# Altium footprint library BiciMaps_3.PcbLib: 28 footprints (part 1 of 2)
Each footprint in its own frame and in the unit in brackets; x right, y up, seen from the top. Pads: shape width x height; smd on the part's side, far side on the other; paste and mask are expansions set on the pad; w line width, h text height; cw(c..) or ccw(c..) is an arc to the next point about the centre after c.
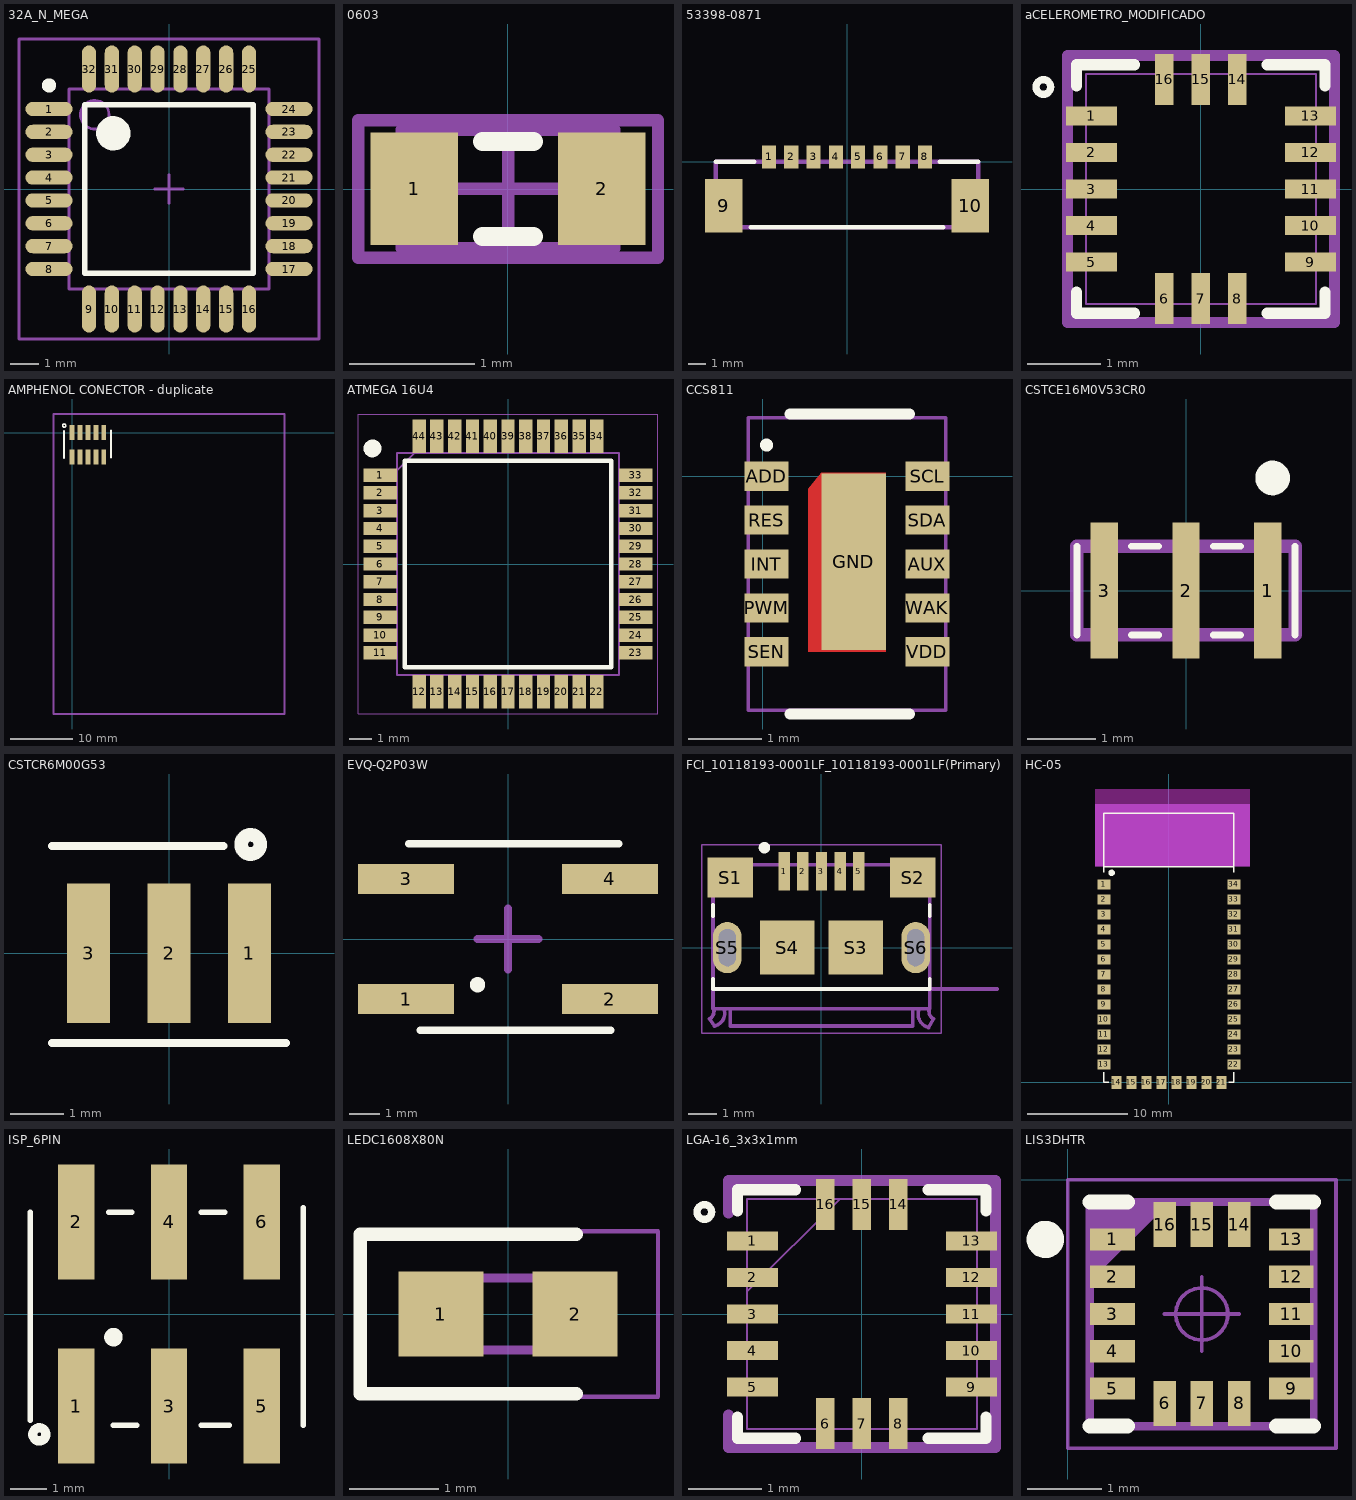
[diagram p0: the footprints below, top view; thin cyan lines are the x and y axes]

## 32A_N_MEGA [mm] "Thin QFP, 32-Leads, Body 7x7mm, Pitch 0.8mm, IPC Medium Density"
height 1.2
pads (32):
  oval 1.65x0.5 smd: 1(-4.2,2.8) 2(-4.2,2) 3(-4.2,1.2) 4(-4.2,0.4) 5(-4.2,-0.4) 6(-4.2,-1.2) 7(-4.2,-2) 8(-4.2,-2.8) 17(4.2,-2.8) 18(4.2,-2) 19(4.2,-1.2) 20(4.2,-0.4) 21(4.2,0.4) 22(4.2,1.2) 23(4.2,2) 24(4.2,2.8)
  oval 0.5x1.65 smd: 9(-2.8,-4.2) 10(-2,-4.2) 11(-1.2,-4.2) 12(-0.4,-4.2) 13(0.4,-4.2) 14(1.2,-4.2) 15(2,-4.2) 16(2.8,-4.2) 25(2.8,4.2) 26(2,4.2) 27(1.2,4.2) 28(0.4,4.2) 29(-0.4,4.2) 30(-1.2,4.2) 31(-2,4.2) 32(-2.8,4.2)
Top Overlay:
  circle w0.6: c-1.95,1.95 r0.3
  circle w0.25: c-4.2,3.625 r0.125
  lines w0.2: -2.95,-2.95 2.95,-2.95 2.95,2.95 -2.95,2.95 -2.95,-2.95
Mechanical 13:
  circle w0.1: c-2.6,2.6 r0.5
  lines w0.1: -3.5,-3.5 3.5,-3.5 3.5,3.5 -3.5,3.5 -3.5,-3.5
Mechanical 15:
  lines w0.1: -0.5,0 0.5,0 ; 0,-0.5 0,0.5 ; -5.25,-5.25 5.25,-5.25 5.25,5.25 -5.25,5.25 -5.25,-5.25

## 0603 [mm]
pads (2):
  rect 0.7x0.9 smd: 1(-0.75,0) 2(0.75,0)
Top Overlay:
  lines w0.152: -0.203,-0.381 0.203,-0.381 ; -0.203,0.381 0.203,0.381
Mechanical 13:
  lines w0.1: -0.85,-0.475 -0.85,0.475 0.85,0.475 0.85,-0.475 -0.85,-0.475
Mechanical 15:
  lines w0.1: -0.475,0 0.475,0 ; 0,-0.475 0,0.475 ; -1.2,-0.55 -1.2,0.55 1.2,0.55 1.2,-0.55 -1.2,-0.55
3D body: height 0.9, standoff 0, extent -0.85,-0.475 0.85,0.475

## 53398-0871 [mm]
pads (10):
  rect 0.8x1.3 smd: 1(-4.375,0.258) 2(-3.125,0.258) 3(-1.875,0.258) 4(-0.625,0.258) 5(0.625,0.258) 6(1.875,0.258) 7(3.125,0.258) 8(4.375,0.258)
  rect 2.1x3 smd: 9(-6.925,-2.492) 10(6.925,-2.492)
Top Overlay:
  lines w0.254: -7.375,0 -5.2,0 ; -5.4,-3.7 5.4,-3.7 ; 5.2,0 7.375,0
Mechanical 15:
  lines w0.254: -7.375,-3.7 -7.375,0 7.375,0 7.375,-3.7 -7.375,-3.7
3D body "533980871.stp": height 4.97, standoff 0.23, extent -7.702,-4.013 7.448,0.187

## aCELEROMETRO_MODIFICADO [mm]
pads (16):
  rect 0.7x0.254 smd paste+0 mask+0: 1(-1.5,1) 2(-1.5,0.5) 3(-1.5,0) 4(-1.5,-0.5) 5(-1.5,-1) 9(1.5,-1) 10(1.5,-0.5) 11(1.5,0) 12(1.5,0.5) 13(1.5,1)
  rect 0.254x0.7 smd paste+0 mask+0: 6(-0.5,-1.5) 7(0,-1.5) 8(0.5,-1.5) 14(0.5,1.5) 15(0,1.5) 16(-0.5,1.5)
Top Overlay:
  circle w0.1: c-2.159,1.397 r0.1
  lines w0.152: -1.702,-1.408 -1.702,-1.702 -0.908,-1.702 ; -1.702,1.408 -1.702,1.702 -0.908,1.702 ; 0.908,-1.702 1.702,-1.702 1.702,-1.408 ; 0.908,1.702 1.702,1.702 1.702,1.408
Mechanical 13:
  lines w0.025: -1.575,-1.575 1.575,-1.575 1.575,1.575 -1.575,1.575 -1.575,-1.575
Mechanical 15:
  lines w0.152: -1.829,-1.829 -1.829,-1.381 -1.829,1.381 -1.829,1.829 -0.881,1.829 0.881,1.829 1.829,1.829 1.829,1.381 1.829,-1.381 1.829,-1.829 0.881,-1.829 -0.881,-1.829 -1.829,-1.829
3D body: height 1.2, standoff 0, extent 0,0 0,0
3D body: height 1.2, standoff 0, extent 0.635,-0.508 0.635,-0.508

## AMPHENOL CONECTOR - duplicate [mm]
pads (10):
  rect 0.76x2.4 smd: 1(0,0.045) 2(0,-3.855) 3(1.27,0.045) 4(1.27,-3.855) 5(2.54,0.045) 6(2.54,-3.855) 7(3.81,0.045) 8(3.81,-3.855) 9(5.08,0.045) 10(5.08,-3.855)
Top Overlay:
  circle w0.254: c-1.27,1.143 r0.254
  lines w0.305: -1.27,-4.064 -1.27,0.254 ; 6.223,-3.937 6.223,0.381
Mechanical 20:
  lines w0.305: -3,-45 34,-45 34,3 -3,3 -3,-45

## ATMEGA 16U4 [mm]
pads (44):
  rect 1.5x0.6 smd: 1(-5.75,4) 2(-5.75,3.2) 3(-5.75,2.4) 4(-5.75,1.6) 5(-5.75,0.8) 6(-5.75,0) 7(-5.75,-0.8) 8(-5.75,-1.6) 9(-5.75,-2.4) 10(-5.75,-3.2) 11(-5.75,-4) 23(5.75,-4) 24(5.75,-3.2) 25(5.75,-2.4) 26(5.75,-1.6) 27(5.75,-0.8) 28(5.75,0) 29(5.75,0.8) 30(5.75,1.6) 31(5.75,2.4) 32(5.75,3.2) 33(5.75,4)
  rect 0.6x1.5 smd: 12(-4,-5.75) 13(-3.2,-5.75) 14(-2.4,-5.75) 15(-1.6,-5.75) 16(-0.8,-5.75) 17(0,-5.75) 18(0.8,-5.75) 19(1.6,-5.75) 20(2.4,-5.75) 21(3.2,-5.75) 22(4,-5.75) 34(4,5.75) 35(3.2,5.75) 36(2.4,5.75) 37(1.6,5.75) 38(0.8,5.75) 39(0,5.75) 40(-0.8,5.75) 41(-1.6,5.75) 42(-2.4,5.75) 43(-3.2,5.75) 44(-4,5.75)
Top Overlay:
  circle w0.4: c-6.1,5.2 r0.2
  lines w0.2: -4.65,-4.65 -4.65,4.65 4.65,4.65 4.65,-4.65 -4.65,-4.65
Mechanical 13:
  lines w0.1: -5,4.2 -4.2,5 ; -5,-5 -5,5 5,5 5,-5 -5,-5
Mechanical 15:
  lines w0.05: -6.75,-6.75 -6.75,6.75 6.75,6.75 6.75,-6.75 -6.75,-6.75
3D body "ATMEGA16U4-AU.stp": height 1.2, standoff 0, extent -6,-6 6,6

## CCS811 [mm] "CCS811 IAQ measurer"
pads (11):
  rect 0.6x0.4 smd mask+0.05: ADD(0.05,0) AUX(2.25,-1.2) INT(0.05,-1.2) PWM(0.05,-1.8) RES(0.05,-0.6) SCL(2.25,0) SDA(2.25,-0.6) SEN(0.05,-2.4) VDD(2.25,-2.4) WAK(2.25,-1.8)
  rect 0.88x2.413 smd paste+0 mask+0: GND(1.245,-1.168)
Top Layer:
  region: 0.8,0.05
  region: 1.68,0.05 1.68,-2.4 0.62,-2.4 0.62,-0.17 0.8,0.05
Top Overlay:
  circle w0.127: c0.05,0.425 r0.025
  region: 1.2,-1.137
  region: 1.45,-1.15
  lines w0.152: 0.37,-3.25 2,-3.25 ; 0.37,0.85 2,0.85
Mechanical 15:
  lines w0.05: -0.2,-3.2 2.5,-3.2 2.5,0.8 -0.2,0.8 -0.2,-1.2 -0.2,-3.2

## CSTCE16M0V53CR0 [mm]
pads (3):
  rect 0.4x2 smd: 1(1.2,0) 2(0,0) 3(-1.2,0)
Top Overlay:
  circle w0.254: c1.27,1.651 r0.127
  lines w0.1: -1.6,-0.65 -1.6,0.65 ; -0.8,-0.65 -0.4,-0.65 ; -0.8,0.65 -0.4,0.65 ; 0.4,-0.65 0.8,-0.65 ; 0.4,0.65 0.8,0.65 ; 1.6,-0.65 1.6,0.65
Mechanical 15:
  lines w0.2: -1.6,-0.65 -1.6,0.65 1.6,0.65 1.6,-0.65 -1.6,-0.65

## CSTCR6M00G53 [mm]
pads (3):
  rect 0.8x2.6 smd: 1(1.5,0) 2(0,0) 3(-1.5,0)
Top Overlay:
  circle w0.254: c1.524,2.032 r0.18
  lines w0.152: -2.184,-1.676 2.184,-1.676 ; -2.184,2.007 1.016,2.007

## EVQ-Q2P03W [mm]
pads (4):
  rect 3.2x1 smd: 1(-3.4,-2) 2(3.4,-2) 3(-3.4,2) 4(3.4,2)
Top Overlay:
  circle w0.254: c-1.016,-1.524 r0.127
  lines w0.254: -3.302,3.175 3.683,3.175 ; -2.921,-3.048 3.429,-3.048
Mechanical 15:
  lines w0.254: -1.016,0 0,0 ; 0,-1.016 0,0 ; 0,1.016 0,0 ; 1.016,0 0,0

## FCI_10118193-0001LF_10118193-0001LF(Primary) [mm]
pads (11):
  rect 0.4x1.35 smd: 1(-1.3,2.675) 2(-0.65,2.675) 3(0,2.675) 4(0.65,2.675) 5(1.3,2.675)
  rect 1.6x1.4 smd: S1(-3.2,2.45) S2(3.2,2.45)
  rect 1.9x1.9 smd: S3(1.2,0) S4(-1.2,0)
  oval 1x1.8 hole 0.6 slot 1.3 at 90 deg: S5(-3.3,0) S6(3.3,0)
Top Overlay:
  circle w0.2: c-2,3.5 r0.1
  lines w0.127: -3.8,-1.45 3.8,-1.45 ; -3.8,-1.4 -3.8,-1.1 ; -3.8,1.1 -3.8,1.5 ; 3.8,-1.4 3.8,-1.1 ; 3.8,1.1 3.8,1.5
Mechanical 1:
  lines w0: -3.55,-0.35 ccw(c-3.3,-0.35) -3.3,-0.6 ccw(c-3.3,-0.35) -3.05,-0.35 -3.05,0.35 ccw(c-3.3,0.35) -3.3,0.6 ccw(c-3.3,0.35) -3.55,0.35 -3.55,-0.35 ; 3.05,-0.35 ccw(c3.3,-0.35) 3.3,-0.6 ccw(c3.3,-0.35) 3.55,-0.35 3.55,0.35 ccw(c3.3,0.35) 3.3,0.6 ccw(c3.3,0.35) 3.05,0.35 3.05,-0.35
Mechanical 4:
  lines w0.127: 6.15,-1.45 3.8,-1.45 ; -3.8,-2.15 3.8,-2.15 ; -3.8,-2.15 -3.8,-2.1 ; -3.8,-2.15 3.8,-2.15 ; -3.8,-2.15 -3.8,-2.1 ; -3.8,-2.1 cw(c-4.065,-2.235) -3.93,-2.5 ccw(c-4.065,-2.235) -3.8,-2.1 ; -3.8,-2.1 -3.8,2.9 ; -3.8,-2.1 -3.8,2.9 ; -3.8,2.9 3.8,2.9 ; -3.8,2.9 3.8,2.9 ; -3.2,-2.75 -3.2,-2.2 -3.2,-2.75 ; -3.2,-2.75 3.2,-2.75 ; -3.2,-2.75 3.2,-2.75 ; 3.2,-2.75 3.2,-2.2 3.2,-2.75 ; 3.8,-2.15 3.8,-1.45 ; 3.8,-2.15 3.8,-1.45 ; 3.8,-1.45 3.8,2.9 ; 3.8,-1.45 3.8,2.9 ; -3.93,-2.5 -3.75,-2.75 -3.93,-2.5 ; -3.746,-2.749 ccw(c-3.85,-2.3) -3.401,-2.196 cw(c-3.85,-2.3) -3.746,-2.749 ; 3.401,-2.198 ccw(c3.875,-2.325) 3.748,-2.799 cw(c3.875,-2.325) 3.401,-2.198 ; 3.75,-2.8 3.93,-2.5 3.75,-2.8 ; 3.8,-2.1 ccw(c4.065,-2.235) 3.93,-2.5 cw(c4.065,-2.235) 3.8,-2.1
Mechanical 16:
  lines w0.05: -4.2,-3 -4.2,3.6 4.2,3.6 4.2,-3 -4.2,-3

## HC-05 [mm]
pads (34):
  rect 1.3x1 smd: 1(-6.5,19.8) 2(-6.5,18.3) 3(-6.5,16.8) 4(-6.5,15.3) 5(-6.5,13.8) 6(-6.5,12.3) 7(-6.5,10.8) 8(-6.5,9.3) 9(-6.5,7.8) 10(-6.5,6.3) 11(-6.5,4.8) 12(-6.5,3.3) 13(-6.5,1.8) 22(6.5,1.8) 23(6.5,3.3) 24(6.5,4.8) 25(6.5,6.3) 26(6.5,7.8) 27(6.5,9.3) 28(6.5,10.8) 29(6.5,12.3) 30(6.5,13.8) 31(6.5,15.3) 32(6.5,16.8) 33(6.5,18.3) 34(6.5,19.8)
  rect 1x1.3 smd: 14(-5.25,0) 15(-3.75,0) 16(-2.25,0) 17(-0.75,0) 18(0.75,0) 19(2.25,0) 20(3.75,0) 21(5.25,0)
Top Layer:
  region: 12.065,26.289
Top Layer keep-out:
  region: -8.636,29.083
Top Overlay:
  circle w0.381: c-5.715,20.955 r0.127
  lines w0.127: -6.5,1 -6.5,0 -6,0 ; -6.5,21 -6.5,23 ; 6,0 6.5,0 6.5,1 ; 6.5,21 6.5,21.59 ; 6.5,21.59 6.5,26.9 -6.5,26.9 -6.5,21.59 6.5,21.59
Keep-Out Layer:
  rectangle: -7.366,21.59 8.128,29.337
Mechanical 13:
  rectangle: -7.366,21.59 8.128,27.813

## ISP_6PIN [mm]
pads (6):
  rect 1x3.15 smd: 1(-2.54,-2.525) 2(-2.54,2.525) 3(0,-2.525) 4(0,2.525) 5(2.54,-2.525) 6(2.54,2.525)
Top Overlay:
  circle w0.254: c-1.524,-0.635 r0.127
  circle w0.254: c-3.556,-3.302 r0.18
  lines w0.152: -3.81,-2.921 -3.81,2.794 ; -1.651,2.794 -1.016,2.794 ; -1.524,-3.048 -0.889,-3.048 ; 0.889,-3.048 1.651,-3.048 ; 0.889,2.794 1.524,2.794 ; 3.683,-3.048 3.683,2.921

## LEDC1608X80N [mm]
pads (2):
  rrect0% 0.95x0.95 smd: 1(-0.75,0) 2(0.75,0)
Top Overlay:
  lines w0.152: 0.762,-0.889 -1.651,-0.889 -1.651,0.889 0.762,0.889
Mechanical 15:
  lines w0.1: -0.8,0.133 -0.533,0.4 ; -0.8,-0.4 -0.8,0.4 0.8,0.4 0.8,-0.4 -0.8,-0.4
Mechanical 20:
  lines w0.05: -1.675,-0.925 -1.675,0.925 1.675,0.925 1.675,-0.925 -1.675,-0.925

## LGA-16_3x3x1mm [mm]
pads (16):
  rect 0.7x0.254 smd paste+0 mask+0: 1(-1.5,1) 2(-1.5,0.5) 3(-1.5,0) 4(-1.5,-0.5) 5(-1.5,-1) 9(1.5,-1) 10(1.5,-0.5) 11(1.5,0) 12(1.5,0.5) 13(1.5,1)
  rect 0.254x0.7 smd paste+0 mask+0: 6(-0.5,-1.5) 7(0,-1.5) 8(0.5,-1.5) 14(0.5,1.5) 15(0,1.5) 16(-0.5,1.5)
Top Overlay:
  circle w0.1: c-2.159,1.397 r0.1
  lines w0.152: -1.702,-1.408 -1.702,-1.702 -0.908,-1.702 ; -1.702,1.408 -1.702,1.702 -0.908,1.702 ; 0.908,-1.702 1.702,-1.702 1.702,-1.408 ; 0.908,1.702 1.702,1.702 1.702,1.408
Mechanical 13:
  lines w0.025: -1.575,0.305 -0.305,1.575 ; -1.575,-1.575 -1.575,1.575 1.575,1.575 1.575,-1.575 -1.575,-1.575
Mechanical 15:
  lines w0.152: -1.829,-1.381 -1.829,-1.829 -0.881,-1.829 0.881,-1.829 1.829,-1.829 1.829,-1.381 1.829,1.381 1.829,1.829 0.881,1.829 -0.881,1.829 -1.829,1.829 -1.829,1.381
3D body: height 1.2, standoff 0, extent 0.635,-0.508 0.635,-0.508
3D body: height 1.2, standoff 0, extent 0,0 0,0
3D body: height 0.25, standoff 0, extent 0,0 0.254,0.254
3D body "LGA-16_3x3x1mm.stp": height 0.99, standoff 0, extent -1.575,-1.575 1.575,1.575

## LIS3DHTR [mm]
pads (16):
  rect 0.6x0.3 smd: 1(0.6,-0.8) 2(0.6,-1.3) 3(0.6,-1.8) 4(0.6,-2.3) 5(0.6,-2.8) 9(3,-2.8) 10(3,-2.3) 11(3,-1.8) 12(3,-1.3) 13(3,-0.8)
  rect 0.3x0.6 smd: 6(1.3,-3) 7(1.8,-3) 8(2.3,-3) 14(2.3,-0.6) 15(1.8,-0.6) 16(1.3,-0.6)
Top Overlay:
  circle w0.25: c-0.3,-0.8 r0.125
  lines w0.2: 0.3,-3.3 0.8,-3.3 ; 0.3,-0.3 0.8,-0.3 ; 2.8,-3.3 3.3,-3.3 ; 2.8,-0.3 3.3,-0.3
Mechanical 13:
  lines w0.1: 0.3,-1.3 1.3,-0.3 ; 0.3,-1.2 1.2,-0.3 ; 0.3,-1.1 1.1,-0.3 ; 0.3,-1 1,-0.3 ; 0.3,-0.9 0.9,-0.3 ; 0.3,-0.8 0.8,-0.3 ; 0.3,-0.7 0.7,-0.3 ; 0.3,-0.6 0.6,-0.3 ; 0.3,-0.5 0.5,-0.3 ; 0.3,-0.4 0.4,-0.3 ; 0.3,-3.3 0.3,-0.3 3.3,-0.3 3.3,-3.3 0.3,-3.3
Mechanical 15:
  circle w0.05: c1.8,-1.8 r0.35
  lines w0.001: 0.25,-3.35 0.25,-0.25 3.35,-0.25 3.35,-3.35 0.25,-3.35
  lines w0.05: 1.3,-1.8 2.3,-1.8 ; 1.8,-2.3 1.8,-1.3 ; 0,-3.6 0,0 3.6,0 3.6,-3.6 0,-3.6